# Altium integrated library Diode.IntLib: 6 symbols
Pins are listed as number, name and electrical type; pins without a type are passive.

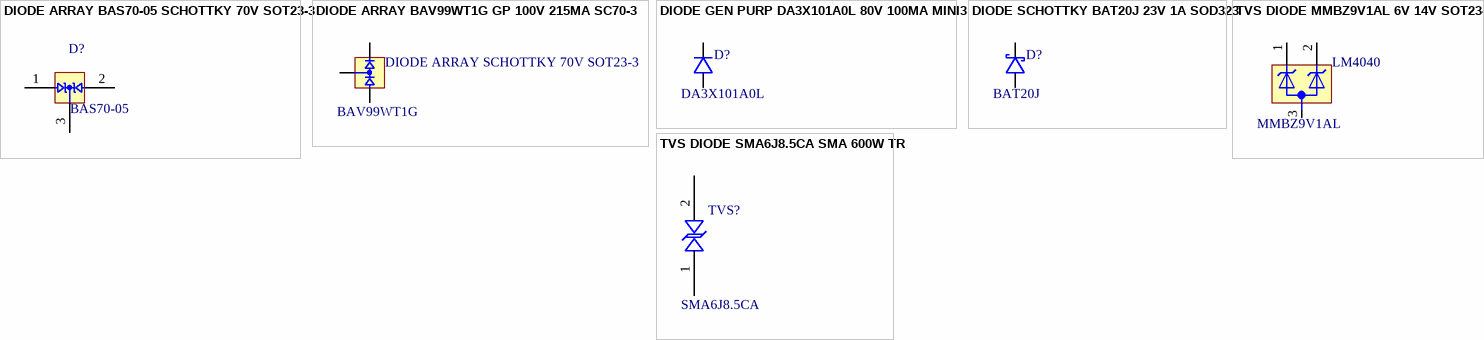
[diagram p0: symbols DIODE ARRAY BAS70-05 SCHOTTKY 70V SOT23-3 to TVS DIODE SMA6J8.5CA SMA 600W TR]

## DIODE ARRAY BAS70-05 SCHOTTKY 70V SOT23-3
designator D?  value BAS70-05  (hidden comment: *)
Diode Array 1 Pair Common Cathode Schottky 70V 70mA (DC) Surface Mount TO-236-3, SC-59, SOT-23-3; PartNumber1: BAS70-05-7-F
footprint SOT23
pins: 1 A1, 2 A2, 3 K

## DIODE ARRAY BAV99WT1G GP 100V 215MA SC70-3
designator DIODE ARRAY SCHOTTKY 70V SOT23-3  value BAV99WT1G  (hidden comment: *)
Diode Array 1 Pair Series Connection Standard 100V 215mA (DC) Surface Mount SC-70, SOT-323; PartNumber1: BAV99WT1G
footprint SOT23
pins: 1 A1, 2 K2, 3 K1A2

## DIODE GEN PURP DA3X101A0L 80V 100MA MINI3
designator D?  value DA3X101A0L  (hidden comment: *)
Diode Standard 80V 100mA (DC) Surface Mount Mini3-G3-B; PartNumber1: DA3X101A0L
footprint SOT23
pins: 1 K, 3 A

## DIODE SCHOTTKY BAT20J 23V 1A SOD323
designator D?  value BAT20J  (hidden comment: *)
Diode Schottky 23V 1A Surface Mount SOD-323; PartNumber1: BAT20JFILM
footprint SOD323
pins: 1 A, 2 K

## TVS DIODE MMBZ9V1AL 6V 14V SOT23-3
designator LM4040  value MMBZ9V1AL  (hidden comment: *)
Zener Diodes, 24 Watt Peak Power; PartNumber1: MMBZ9V1ALT1G
footprint SOT23
pins: 1 C1, 2 C2, 3 A

## TVS DIODE SMA6J8.5CA SMA 600W TR
designator TVS?  value SMA6J8.5CA  (hidden comment: *)
TVS DIODE 8.5V 18.7V SMA; PartNumber1: SMA6J8.5CA
footprint DO214AA_BI
pins: 1, 2